# Altium footprint library Protel 99SE BANKS PCB.PCBLIB: 278 footprints (part 15 of 18)
Each footprint in its own frame and in the unit in brackets; x right, y up, seen from the top. Pads: shape width x height; smd on the part's side, far side on the other; paste and mask are expansions set on the pad; w line width, h text height; cw(c..) or ccw(c..) is an arc to the next point about the centre after c.
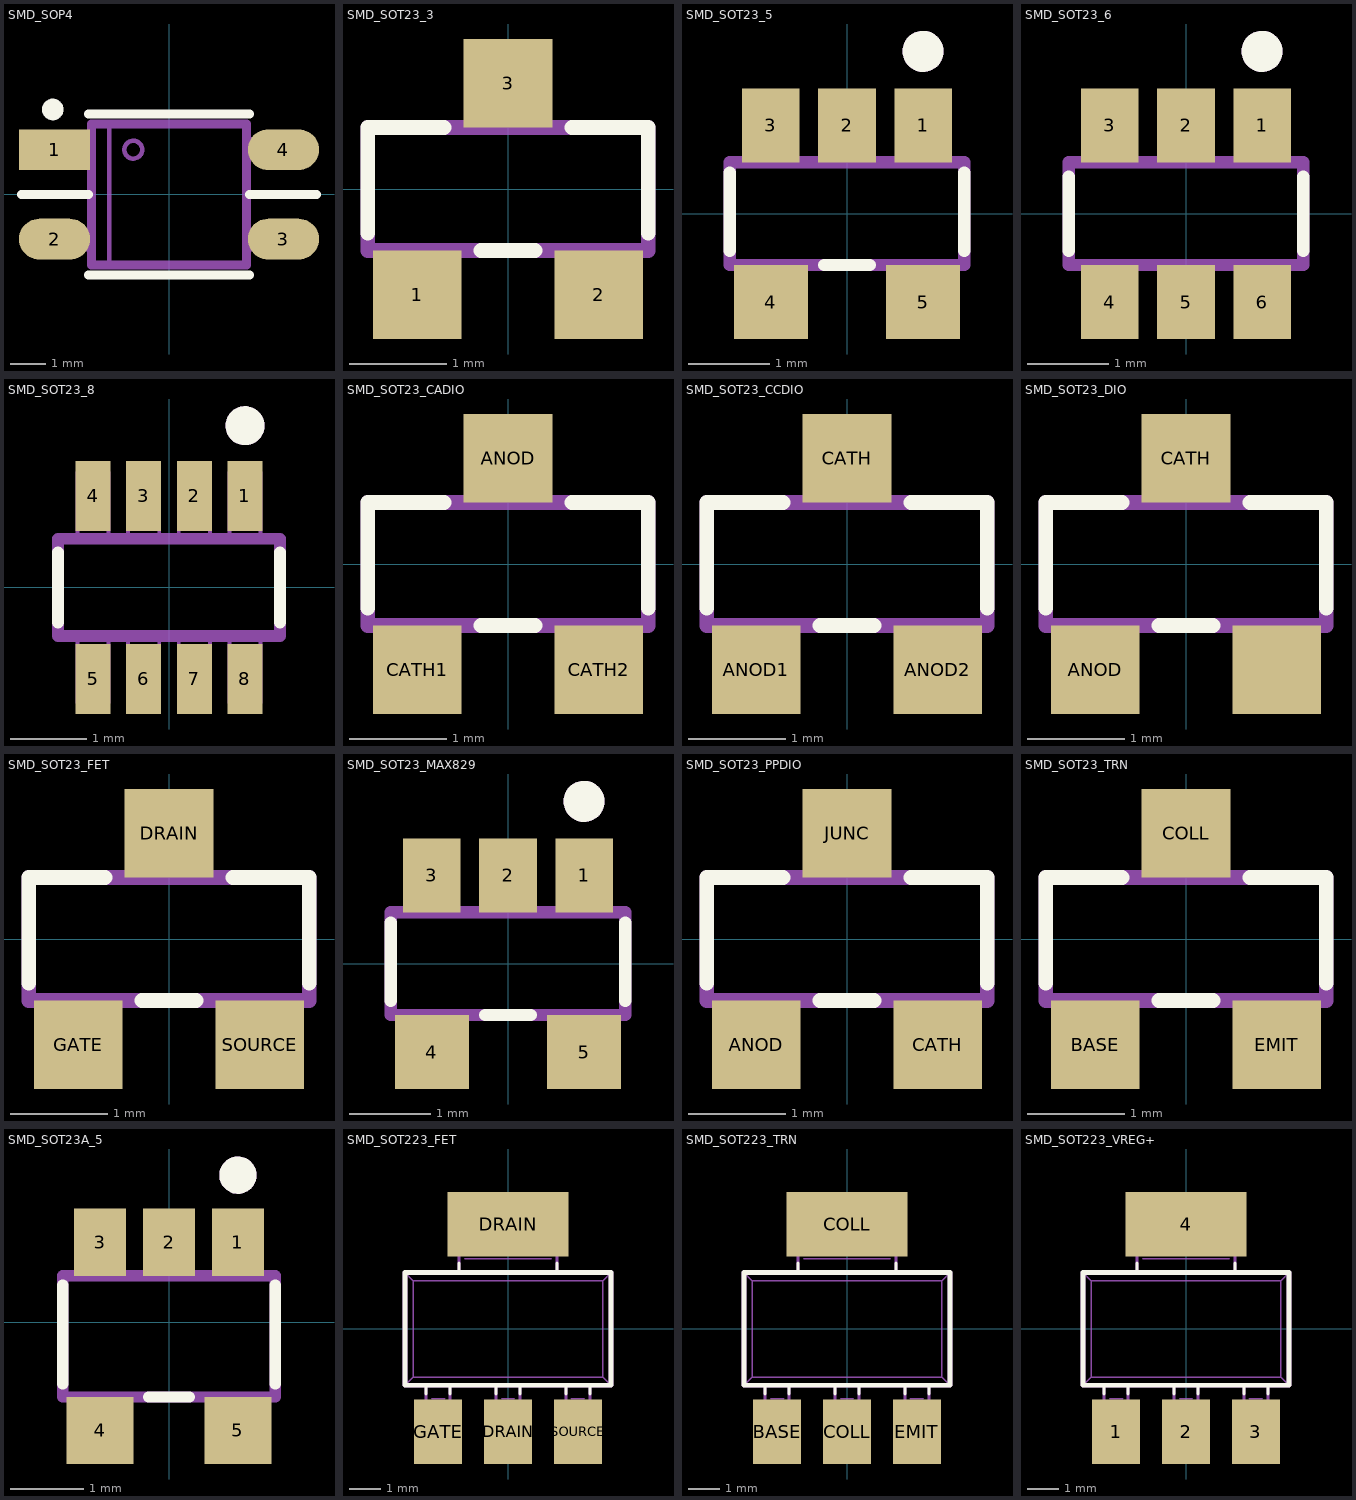
[diagram p14: the footprints below, top view; thin cyan lines are the x and y axes]

## SMD_SOP4 [mm]
pads (4):
  rect 2.024x1.162 smd: 1(-3.25,1.27)
  oval 2.024x1.162 smd: 2(-3.25,-1.27) 3(3.25,-1.27) 4(3.25,1.27)
TopOverlay:
  circle w0.254: c-3.302,2.413 r0
  circle w0.254: c-3.302,2.413 r0.18
  lines w0.254: -4.191,0 -2.286,0 ; -2.286,-2.286 2.286,-2.286 ; -2.286,2.286 2.286,2.286 ; 2.286,0 4.191,0
Mechanical3:
  circle w0.127: c-1.016,1.27 r0.254
  lines w0.127: -1.7,-2 -1.7,2
  lines w0.254: -3,-1.1 -3,-1.5 ; -3,1.5 -3,1.1 ; -2.2,-1.5 -3,-1.5 ; -2.2,-1.1 -3.5,-1.1 -3.5,-1.5 -3,-1.5 ; -2.2,1.1 -3,1.1 ; -2.2,1.5 -3.5,1.5 -3.5,1.1 -3,1.1 ; 2.2,-1.5 3,-1.5 ; 2.2,-1.1 3.5,-1.1 3.5,-1.5 3,-1.5 ; 2.2,1.1 3,1.1 ; 2.2,1.5 3.5,1.5 3.5,1.1 3,1.1 ; 3,-1.1 3,-1.5 ; 3,1.5 3,1.1 ; -2.2,-2 2.2,-2 2.2,2 -2.2,2 -2.2,0 -2.2,-2

## SMD_SOT23_3 [mil]
pads (3):
  rect 36x36 smd: 1(-37,-43) 2(37,-43) 3(0,43)
TopOverlay:
  lines w6: -57,-18 -57,25 -26,25 ; -11,-25 11,-25 ; 26,25 57,25 57,-18
Mechanical3:
  lines w2: -46,-40 -28,-40 ; -46,-25 -46,-47 -28,-47 -28,-25 ; -41,-34 -33,-34 ; -9,25 -9,47 9,47 9,25 ; -9,40 9,40 ; -4,34 4,34 ; 28,-40 46,-40 ; 28,-25 28,-47 46,-47 46,-25 ; 33,-34 41,-34
  lines w6: -57,-25 -57,25 57,25 57,-25 -57,-25

## SMD_SOT23_5 [mil]
pads (5):
  rect 28x36 smd: 1(37,43) 2(0,43) 3(-37,43)
  rect 36x36 smd: 4(-37,-43) 5(37,-43)
TopOverlay:
  circle w8: c37,79 r6
  lines w6: -57,-18 -57,20 ; -11,-25 11,-25 ; 57,-18 57,20
  lines w8: 33,79 41,79 ; 37,75 37,83
Mechanical3:
  circle w8: c37,79 r6
  lines w2: -46,-40 -28,-40 ; -46,-25 -46,-47 -28,-47 -28,-25 ; -46,25 -46,47 -28,47 -28,25 ; -46,40 -28,40 ; -41,-34 -33,-34 ; -41,34 -33,34 ; -9,25 -9,47 9,47 9,25 ; -9,40 9,40 ; -4,34 4,34 ; 28,-40 46,-40 ; 28,-25 28,-47 46,-47 46,-25 ; 28,25 28,47 46,47 46,25 ; 28,40 46,40 ; 33,-34 41,-34 ; 33,34 41,34
  lines w6: -57,-25 -57,25 57,25 57,-25 -57,-25
  lines w8: 33,79 41,79 ; 37,75 37,83

## SMD_SOT23_6 [mil]
pads (6):
  rect 28x36 smd: 1(37,43) 2(0,43) 3(-37,43) 4(-37,-43) 5(0,-43) 6(37,-43)
TopOverlay:
  circle w8: c37,79 r6
  lines w6: -57,-18 -57,18 ; 57,-18 57,18
  lines w8: 33,79 41,79 ; 37,75 37,83
Mechanical3:
  circle w8: c37,79 r6
  lines w2: -46,-40 -28,-40 ; -46,-25 -46,-47 -28,-47 -28,-25 ; -46,25 -46,47 -28,47 -28,25 ; -46,40 -28,40 ; -41,-34 -33,-34 ; -41,34 -33,34 ; -9,-40 9,-40 ; -9,-25 -9,-47 9,-47 9,-25 ; -9,25 -9,47 9,47 9,25 ; -9,40 9,40 ; -4,-34 4,-34 ; -4,34 4,34 ; 28,-40 46,-40 ; 28,-25 28,-47 46,-47 46,-25 ; 28,25 28,47 46,47 46,25 ; 28,40 46,40 ; 33,-34 41,-34 ; 33,34 41,34
  lines w6: -57,-25 57,-25 57,25 -57,25 -57,-25
  lines w8: 33,79 41,79 ; 37,75 37,83

## SMD_SOT23_8 [mil]
pads (8):
  rect 18x36 smd: 1(39,47) 2(13,47) 3(-13,47) 4(-39,47) 5(-39,-47) 6(-13,-47) 7(13,-47) 8(39,-47)
TopOverlay:
  circle w8: c39,83 r6
  lines w6: -57,-18 -57,18 ; 57,-18 57,18
  lines w8: 35,83 43,83 ; 39,79 39,87
Mechanical3:
  circle w8: c39,83 r6
  lines w2: -47,-45 -31,-45 ; -47,-25 -47,-59 -31,-59 -31,-25 ; -47,25 -47,59 -31,59 -31,25 ; -47,45 -31,45 ; -43,-36 -35,-36 ; -43,36 -35,36 ; -21,-45 -5,-45 ; -21,-25 -21,-59 -5,-59 -5,-25 ; -21,25 -21,59 -5,59 -5,25 ; -21,45 -5,45 ; -17,-36 -9,-36 ; -17,36 -9,36 ; 5,-45 21,-45 ; 5,-25 5,-59 21,-59 21,-25 ; 5,25 5,59 21,59 21,25 ; 5,45 21,45 ; 9,-36 17,-36 ; 9,36 17,36 ; 31,-45 47,-45 ; 31,-25 31,-59 47,-59 47,-25 ; 31,25 31,59 47,59 47,25 ; 31,45 47,45 ; 35,-36 43,-36 ; 35,36 43,36
  lines w6: -57,-25 57,-25 57,25 -57,25 -57,-25
  lines w8: 35,83 43,83 ; 39,79 39,87

## SMD_SOT23_CADIO [mil]
pads (3):
  rect 36x36 smd: ANOD(0,43) CATH1(-37,-43) CATH2(37,-43)
TopOverlay:
  lines w6: -57,-18 -57,25 -26,25 ; -11,-25 11,-25 ; 26,25 57,25 57,-18
Mechanical3:
  lines w2: -46,-40 -28,-40 ; -46,-25 -46,-47 -28,-47 -28,-25 ; -41,-34 -33,-34 ; -9,25 -9,47 9,47 9,25 ; -9,40 9,40 ; -4,34 4,34 ; 28,-40 46,-40 ; 28,-25 28,-47 46,-47 46,-25 ; 33,-34 41,-34
  lines w6: -57,-25 57,-25 57,25 -57,25 -57,-25

## SMD_SOT23_CCDIO [mil]
pads (3):
  rect 36x36 smd: ANOD1(-37,-43) ANOD2(37,-43) CATH(0,43)
TopOverlay:
  lines w6: -57,-18 -57,25 -26,25 ; -11,-25 11,-25 ; 26,25 57,25 57,-18
Mechanical3:
  lines w2: -46,-40 -28,-40 ; -46,-25 -46,-47 -28,-47 -28,-25 ; -41,-34 -33,-34 ; -9,25 -9,47 9,47 9,25 ; -9,40 9,40 ; -4,34 4,34 ; 28,-40 46,-40 ; 28,-25 28,-47 46,-47 46,-25 ; 33,-34 41,-34
  lines w6: -57,-25 -57,25 57,25 57,-25 -57,-25

## SMD_SOT23_DIO [mil]
pads (3):
  rect 36x36 smd: ANOD(-37,-43) CATH(0,43) ""(37,-43)
TopOverlay:
  lines w6: -57,-18 -57,25 -26,25 ; -11,-25 11,-25 ; 26,25 57,25 57,-18
Mechanical3:
  lines w2: -46,-40 -28,-40 ; -46,-25 -46,-47 -28,-47 -28,-25 ; -41,-34 -33,-34 ; -9,25 -9,47 9,47 9,25 ; -9,40 9,40 ; -4,34 4,34 ; 28,-40 46,-40 ; 28,-25 28,-47 46,-47 46,-25 ; 33,-34 41,-34
  lines w6: -57,-25 -57,25 57,25 57,-25 -57,-25

## SMD_SOT23_FET [mil]
pads (3):
  rect 36x36 smd: DRAIN(0,43) GATE(-37,-43) SOURCE(37,-43)
TopOverlay:
  lines w6: -57,-18 -57,25 -26,25 ; -11,-25 11,-25 ; 26,25 57,25 57,-18
Mechanical3:
  lines w2: -46,-40 -28,-40 ; -46,-25 -46,-47 -28,-47 -28,-25 ; -41,-34 -33,-34 ; -9,25 -9,47 9,47 9,25 ; -9,40 9,40 ; -4,34 4,34 ; 28,-40 46,-40 ; 28,-25 28,-47 46,-47 46,-25 ; 33,-34 41,-34
  lines w6: -57,-25 57,-25 57,25 -57,25 -57,-25

## SMD_SOT23_MAX829 [mil]
pads (5):
  rect 28x36 smd: 1(37,43) 2(0,43) 3(-37,43)
  rect 36x36 smd: 4(-37,-43) 5(37,-43)
TopOverlay:
  circle w8: c37,79 r6
  lines w6: -57,-18 -57,20 ; -11,-25 11,-25 ; 57,-18 57,20
  lines w8: 33,79 41,79 ; 37,75 37,83
Mechanical3:
  circle w8: c37,79 r6
  lines w2: -46,-40 -28,-40 ; -46,-25 -46,-47 -28,-47 -28,-25 ; -46,25 -46,47 -28,47 -28,25 ; -46,40 -28,40 ; -41,-34 -33,-34 ; -41,34 -33,34 ; -9,25 -9,47 9,47 9,25 ; -9,40 9,40 ; -4,34 4,34 ; 28,-40 46,-40 ; 28,-25 28,-47 46,-47 46,-25 ; 28,25 28,47 46,47 46,25 ; 28,40 46,40 ; 33,-34 41,-34 ; 33,34 41,34
  lines w6: -57,-25 57,-25 57,25 -57,25 -57,-25
  lines w8: 33,79 41,79 ; 37,75 37,83

## SMD_SOT23_PPDIO [mil]
pads (3):
  rect 36x36 smd: ANOD(-37,-43) CATH(37,-43) JUNC(0,43)
TopOverlay:
  lines w6: -57,-18 -57,25 -26,25 ; -11,-25 11,-25 ; 26,25 57,25 57,-18
Mechanical3:
  lines w2: -46,-40 -28,-40 ; -46,-25 -46,-47 -28,-47 -28,-25 ; -41,-34 -33,-34 ; -9,25 -9,47 9,47 9,25 ; -9,40 9,40 ; -4,34 4,34 ; 28,-40 46,-40 ; 28,-25 28,-47 46,-47 46,-25 ; 33,-34 41,-34
  lines w6: -57,-25 57,-25 57,25 -57,25 -57,-25

## SMD_SOT23_TRN [mil]
pads (3):
  rect 36x36 smd: BASE(-37,-43) COLL(0,43) EMIT(37,-43)
TopOverlay:
  lines w6: -57,-18 -57,25 -26,25 ; -11,-25 11,-25 ; 26,25 57,25 57,-18
Mechanical3:
  lines w2: -46,-40 -28,-40 ; -46,-25 -46,-47 -28,-47 -28,-25 ; -41,-34 -33,-34 ; -9,25 -9,47 9,47 9,25 ; -9,40 9,40 ; -4,34 4,34 ; 28,-40 46,-40 ; 28,-25 28,-47 46,-47 46,-25 ; 33,-34 41,-34
  lines w6: -57,-25 57,-25 57,25 -57,25 -57,-25

## SMD_SOT23A_5 [mil]
pads (5):
  rect 28x36 smd: 1(37,43) 2(0,43) 3(-37,43)
  rect 36x36 smd: 4(-37,-58) 5(37,-58)
TopOverlay:
  circle w8: c37,79 r6
  lines w6: -57,-33 -57,20 ; -11,-40 11,-40 ; 57,-33 57,20
  lines w8: 33,79 41,79 ; 37,75 37,83
Mechanical3:
  circle w8: c37,79 r6
  lines w2: -46,-55 -28,-55 ; -46,-40 -46,-62 -28,-62 -28,-40 ; -46,25 -46,47 -28,47 -28,25 ; -46,40 -28,40 ; -41,-49 -33,-49 ; -41,34 -33,34 ; -9,25 -9,47 9,47 9,25 ; -9,40 9,40 ; -4,34 4,34 ; 28,-55 46,-55 ; 28,-40 28,-62 46,-62 46,-40 ; 28,25 28,47 46,47 46,25 ; 28,40 46,40 ; 33,-49 41,-49 ; 33,34 41,34
  lines w6: -57,-40 57,-40 57,25 -57,25 -57,-25 -57,-40
  lines w8: 33,79 41,79 ; 37,75 37,83

## SMD_SOT223_FET [mil]
pads (4):
  rect 60x80 smd: DRAIN(0,-128) GATE(-87,-128) SOURCE(87,-128)
  rect 150x80 smd: DRAIN(0,130)
TopOverlay:
  lines w4: -102,-81 -102,-70 ; -72,-81 -72,-70 ; -61,70 -61,82 ; -15,-81 -15,-70 ; 15,-81 15,-70 ; 61,70 61,82 ; 72,-81 72,-70 ; 102,-81 102,-70
  lines w6: -128,-70 128,-70 128,70 -128,70 -128,-70
Mechanical3:
  lines w2: -128,-70 -118,-60 ; -128,70 -118,60 ; -95,-87 -79,-87 ; -54,87 54,87 ; -8,-87 8,-87 ; 79,-87 95,-87 ; 128,-70 118,-60 ; 128,70 118,60 ; -118,-60 118,-60 ; -118,-60 -118,60 ; -118,60 118,60 ; 118,-60 118,60
  lines w4: -102,-112 -72,-112 ; -102,-70 -102,-137 -72,-137 -72,-70 ; -61,70 -61,137 61,137 61,70 ; -61,112 61,112 ; -15,-112 15,-112 ; -15,-70 -15,-137 15,-137 15,-70 ; 72,-112 102,-112 ; 72,-70 72,-137 102,-137 102,-70
  lines w6: -128,-70 128,-70 128,70 -128,70 -128,-70

## SMD_SOT223_TRN [mil]
pads (4):
  rect 60x80 smd: BASE(-87,-128) COLL(0,-128) EMIT(87,-128)
  rect 150x80 smd: COLL(0,130)
TopOverlay:
  lines w4: -102,-81 -102,-70 ; -72,-81 -72,-70 ; -61,70 -61,82 ; -15,-81 -15,-70 ; 15,-81 15,-70 ; 61,70 61,82 ; 72,-81 72,-70 ; 102,-81 102,-70
  lines w6: -128,-70 128,-70 128,70 -128,70 -128,-70
Mechanical3:
  lines w2: -128,-70 -118,-60 ; -128,70 -118,60 ; -95,-87 -79,-87 ; -54,87 54,87 ; -8,-87 8,-87 ; 79,-87 95,-87 ; 128,-70 118,-60 ; 128,70 118,60 ; -118,-60 118,-60 ; -118,-60 -118,60 ; -118,60 118,60 ; 118,-60 118,60
  lines w4: -102,-112 -72,-112 ; -102,-70 -102,-137 -72,-137 -72,-70 ; -61,70 -61,137 61,137 61,70 ; -61,112 61,112 ; -15,-112 15,-112 ; -15,-70 -15,-137 15,-137 15,-70 ; 72,-112 102,-112 ; 72,-70 72,-137 102,-137 102,-70
  lines w6: -128,-70 128,-70 128,70 -128,70 -128,-70

## SMD_SOT223_VREG+ [mil]
pads (4):
  rect 60x80 smd: 1(-87,-128) 2(0,-128) 3(87,-128)
  rect 150x80 smd: 4(0,130)
TopOverlay:
  lines w4: -102,-81 -102,-70 ; -72,-81 -72,-70 ; -61,70 -61,82 ; -15,-81 -15,-70 ; 15,-81 15,-70 ; 61,70 61,82 ; 72,-81 72,-70 ; 102,-81 102,-70
  lines w6: -128,-70 -128,70 128,70 128,-70 -128,-70
Mechanical3:
  lines w2: -128,-70 -118,-60 ; -128,70 -118,60 ; -95,-87 -79,-87 ; -54,87 54,87 ; -8,-87 8,-87 ; 79,-87 95,-87 ; 128,-70 118,-60 ; 128,70 118,60 ; -118,-60 -118,60 ; -118,-60 118,-60 ; -118,60 118,60 ; 118,-60 118,60
  lines w4: -102,-112 -72,-112 ; -102,-70 -102,-137 -72,-137 -72,-70 ; -61,70 -61,137 61,137 61,70 ; -61,112 61,112 ; -15,-112 15,-112 ; -15,-70 -15,-137 15,-137 15,-70 ; 72,-112 102,-112 ; 72,-70 72,-137 102,-137 102,-70
  lines w6: -128,-70 -128,70 128,70 128,-70 -128,-70